# Altium footprint library Buzzer.PcbLib: 3 footprints
Each footprint in its own frame and in the unit in brackets; x right, y up, seen from the top. Pads: shape width x height; smd on the part's side, far side on the other; paste and mask are expansions set on the pad; w line width, h text height; cw(c..) or ccw(c..) is an arc to the next point about the centre after c.
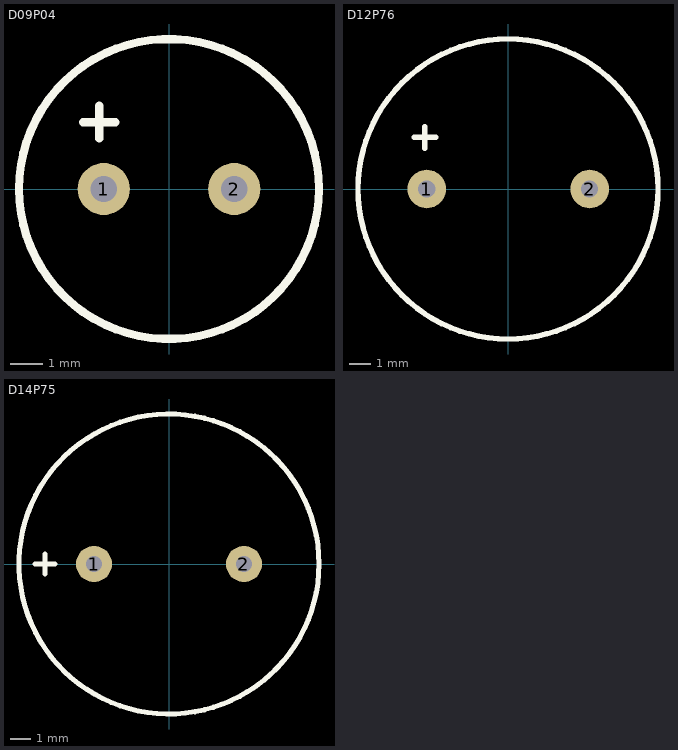
[diagram p0: the footprints below, top view; thin cyan lines are the x and y axes]

## D09P04 [mm] "Diameter 9.2mm; pitch 4mm; height 4.2mm"
height 4.2
pads (2):
  round 1.6 hole 0.8: 1(-2,0) 2(2,0)
Top Overlay:
  circle w0.254: c0,0 r4.6
  lines w0.254: -2.64,2.05 -1.64,2.05 ; -2.14,1.55 -2.14,2.55
3D body: height 4.2, standoff 0, extent -4.59,-4.59 4.61,4.61

## D12P76 [mm] "Diameter 12mm; pitch 7.6"
height 7.6
pads (2):
  round 1.8 hole 0.8: 1(-3.79,0) 2(3.81,0)
Top Overlay:
  circle w0.254: c0,0 r7
  lines w0.254: -4.38,2.41 -3.38,2.41 ; -3.88,1.91 -3.88,2.91
3D body "User Library-CEP2242_Buzzer.step": height 7.69, standoff -5.4, extent -6.845,-6.845 6.845,6.845

## D14P75 [mm] "Diameter 14mm; pitch 7.5"
height 8
pads (2):
  round 1.8 hole 0.8: 1(-3.75,0) 2(3.75,0)
Top Overlay:
  circle w0.254: c0,0 r7.5
  lines w0.254: -6.7,0 -5.7,0 ; -6.2,-0.5 -6.2,0.5
3D body "Buzzer14mm.step": height 7.35, standoff -3.1, extent -7,-7 7,7